# Altium integrated library Analog Devices Data Converters Digital-to-Analog Converters.IntLib: 2231 symbols (part 167 of 181)
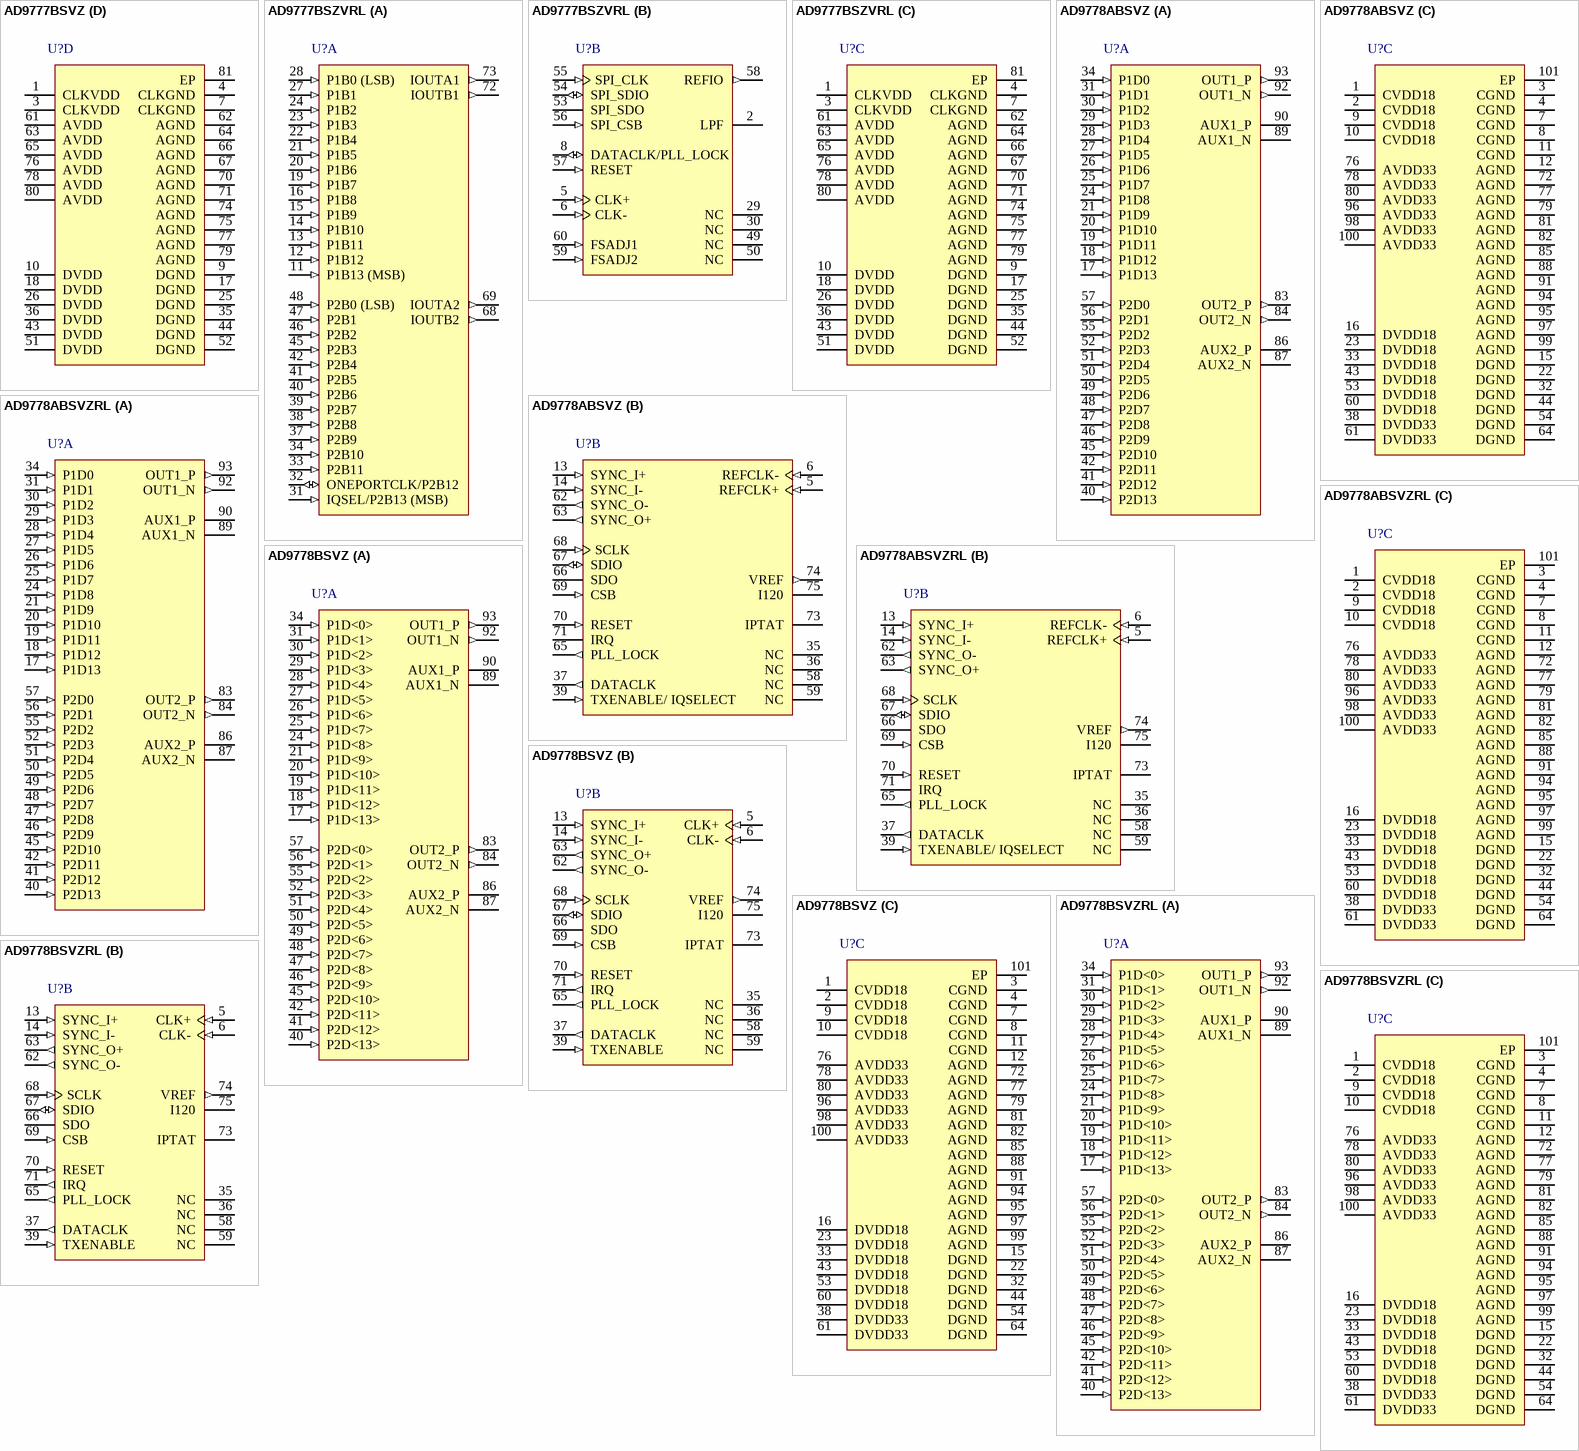
[diagram p280: symbols AD9777BSVZ to AD9778BSVZRL]

## AD9778BSVZ
designator U?
Dual 14-Bit Digital-to-Analog Converter, 1 Gsps, -40 to +85 degC, SV-100-1, Pb-Free, Tray; Generic Part Number: AD9778; Manufacturer: Analog Devices; PartNumber: AD9778BSVZ; # DAC Outputs: 2; Max V+: 3.47V; Op Pwr Diss: 300mW; Resolution (Bits): 14; Single Supply: No; DatasheetVersion: Rev.A; PackageVersion: 040506-A; PackageReference: SV-100-1; PackageDescription: 100-Lead Thin Quad Flat Package, Exposed Pad [TQFP_EP]; Supplier 1: Digi-Key; Supplier Part Number 1: AD9778BSVZ-ND; Supplier 2: Mouser; Supplier Part Number 2: 584-AD9778BSVZ; Packing: Tray; RoHS: Y; Mounting Technology: Surface Mount; Code_JEDEC: MS-026-AED-HD; ComponentLink1Description: Manufacturer URL; ComponentLink1URL: http://www.analog.com/en/index.html; ComponentLink2Description: Datasheet; ComponentLink2URL: http://www.analog.com/static/imported-files/data_sheets/AD9776_9778_9779.pdf; ComponentLink3Description: Package Specification; ComponentLink3URL: http://www.analog.com/static/imported-files/packages/PKG_PDF/TQFP_ED(SV)/SV_100_1.pdf; ComponentLink4Description: Product URL; ComponentLink4URL: http://www.analog.com/en/digital-to-analog-converters/da-converters/ad9778/products/product.html
footprint SV-100-1_N (Thin QFP, 100-Leads, Body 14x14mm, Pitch 0.5mm, Thermal Pad 6.5x6.5mm, IPC Medium Density)
footprint SV-100-1_L (Thin QFP, 100-Leads, Body 14x14mm, Pitch 0.5mm, Thermal Pad 6.5x6.5mm, IPC High Density)
footprint SV-100-1_M (Thin QFP, 100-Leads, Body 14x14mm, Pitch 0.5mm, Thermal Pad 6.5x6.5mm, IPC Low Density)
part A pins: 17 P1D<13> (in) "Port 1, Data Input D13 (MSB).", 18 P1D<12> (in) "Port 1, Data Input D12.", 19 P1D<11> (in) "Port 1, Data Input D11.", 20 P1D<10> (in) "Port 1, Data Input D10.", 21 P1D<9> (in) "Port 1, Data Input D9.", 24 P1D<8> (in) "Port 1, Data Input D8.", 25 P1D<7> (in) "Port 1, Data Input D7.", 26 P1D<6> (in) "Port 1, Data Input D6.", 27 P1D<5> (in) "Port 1, Data Input D5.", 28 P1D<4> (in) "Port 1, Data Input D4.", 29 P1D<3> (in) "Port 1, Data Input D3.", 30 P1D<2> (in) "Port 1, Data Input D2.", 31 P1D<1> (in) "Port 1, Data Input D1.", 34 P1D<0> (in) "Port 1, Data Input D0 (LSB).", 40 P2D<13> (in) "Port 2, Data Input D13 (MSB).", 41 P2D<12> (in) "Port 2, Data Input D12.", 42 P2D<11> (in) "Port 2, Data Input D11.", 45 P2D<10> (in) "Port 2, Data Input D10.", 46 P2D<9> (in) "Port 2, Data Input D9.", 47 P2D<8> (in) "Port 2, Data Input D8.", 48 P2D<7> (in) "Port 2, Data Input D7.", 49 P2D<6> (in) "Port 2, Data Input D6.", 50 P2D<5> (in) "Port 2, Data Input D5.", 51 P2D<4> (in) "Port 2, Data Input D4.", 52 P2D<3> (in) "Port 2, Data Input D3.", 55 P2D<2> (in) "Port 2, Data Input D2.", 56 P2D<1> (in) "Port 2, Data Input D1.", 57 P2D<0> (in) "Port 2, Data Input D0 (LSB).", 83 OUT2_P (out) "Differential DAC Current Output, Channel 2", 84 OUT2_N (out) "Differential DAC Current Output, Channel 2.", 86 AUX2_P (hiz) "Auxiliary DAC Current Output, Channel 2.", 87 AUX2_N (hiz) "Auxiliary DAC Current Output, Channel 2.", 89 AUX1_N (hiz) "Auxiliary DAC Current Output, Channel 1.", 90 AUX1_P (hiz) "Auxiliary DAC Current Output, Channel 1.", 92 OUT1_N (out) "Differential DAC Current Output, Channel 1.", 93 OUT1_P (out) "Differential DAC Current Output, Channel 1."
part B pins: 5 CLK+ (in) "Differential Clock Input.", 6 CLK- (in) "Differential Clock Input.", 13 SYNC_I+ (in) "Differential Synchronization Input.", 14 SYNC_I- (in) "Differential Synchronization Input.", 35 NC "No Connect.", 36 NC "No Connect.", 37 DATACLK (out) "Data Clock Output.", 39 TXENABLE (in) "Transmit Enable.", 58 NC "No Connect.", 59 NC "No Connect.", 62 SYNC_O- (out) "Differential Synchronization Output.", 63 SYNC_O+ (out) "Differential Synchronization Output.", 65 PLL_LOCK (out) "PLL Lock Indicator.", 66 SDO (hiz) "SPI Port Data Output.", 67 SDIO (io) "SPI Port Data Input/Output.", 68 SCLK (in) "SPI Port Clock.", 69 CSB (in) "SPI Port Chip Select Bar.", 70 RESET (in) "Reset, Active High.", 71 IRQ (out) "Interrupt Request.", 73 IPTAT "Factory Test Pin. Output current is proportional to absolute temperature, approximately 10 uA at 25degreesC with approximately 20 nA/degreesC slope. This pin should remain floating.", 74 VREF (out) "Voltage Reference Output.", 75 I120 "120 uA Reference Current."
part C pins: 1 CVDD18 (power) "1.8 V Clock Supply.", 2 CVDD18 (power) "1.8 V Clock Supply.", 3 CGND (power) "Clock Common.", 4 CGND (power) "Clock Common.", 7 CGND (power) "Clock Common.", 8 CGND (power) "Clock Common.", 9 CVDD18 (power) "1.8 V Clock Supply.", 10 CVDD18 (power) "1.8 V Clock Supply.", 11 CGND (power) "Clock Common.", 12 AGND (power) "Analog Common.", 15 DGND (power) "Digital Common.", 16 DVDD18 (power) "1.8 V Digital Supply.", 22 DGND (power) "Digital Common.", 23 DVDD18 (power) "1.8 V Digital Supply.", 32 DGND (power) "Digital Common.", 33 DVDD18 (power) "1.8 V Digital Supply.", 38 DVDD33 (power) "3.3 V Digital Supply.", 43 DVDD18 (power) "1.8 V Digital Supply.", 44 DGND (power) "Digital Common.", 53 DVDD18 (power) "1.8 V Digital Supply.", 54 DGND (power) "Digital Common.", 60 DVDD18 (power) "1.8 V Digital Supply.", 61 DVDD33 (power) "3.3 V Digital Supply.", 64 DGND (power) "Digital Common.", 72 AGND (power) "Analog Common.", 76 AVDD33 (power) "3.3 V Analog Supply.", 77 AGND (power) "Analog Common.", 78 AVDD33 (power) "3.3 V Analog Supply.", 79 AGND (power) "Analog Common.", 80 AVDD33 (power) "3.3 V Analog Supply.", 81 AGND (power) "Analog Common.", 82 AGND (power) "Analog Common.", 85 AGND (power) "Analog Common.", 88 AGND (power) "Analog Common.", 91 AGND (power) "Analog Common.", 94 AGND (power) "Analog Common.", 95 AGND (power) "Analog Common.", 96 AVDD33 (power) "3.3 V Analog Supply.", 97 AGND (power) "Analog Common.", 98 AVDD33 (power) "3.3 V Analog Supply.", 99 AGND (power) "Analog Common.", 100 AVDD33 (power) "3.3 V Analog Supply.", 101 EP (power) "Exposed Pad"

## AD9778BSVZRL
designator U?
Dual 14-Bit Digital-to-Analog Converter, 1 Gsps, -40 to +85 degC, SV-100-1, Pb-Free, Reel; Generic Part Number: AD9778; Manufacturer: Analog Devices; PartNumber: AD9778BSVZRL; # DAC Outputs: 2; Max V+: 3.47V; Op Pwr Diss: 300mW; Resolution (Bits): 14; Single Supply: No; DatasheetVersion: Rev.A; PackageVersion: 040506-A; PackageReference: SV-100-1; PackageDescription: 100-Lead Thin Quad Flat Package, Exposed Pad [TQFP_EP]; Supplier 1: Digi-Key; Supplier Part Number 1: AD9778BSVZRL-ND; Supplier 2: Mouser; Supplier Part Number 2: 584-AD9778BSVZR; Packing: Reel; RoHS: Y; Mounting Technology: Surface Mount; Code_JEDEC: MS-026-AED-HD; ComponentLink1Description: Manufacturer URL; ComponentLink1URL: http://www.analog.com/en/index.html; ComponentLink2Description: Datasheet; ComponentLink2URL: http://www.analog.com/static/imported-files/data_sheets/AD9776_9778_9779.pdf; ComponentLink3Description: Package Specification; ComponentLink3URL: http://www.analog.com/static/imported-files/packages/PKG_PDF/TQFP_ED(SV)/SV_100_1.pdf; ComponentLink4Description: Product URL; ComponentLink4URL: http://www.analog.com/en/digital-to-analog-converters/da-converters/ad9778/products/product.html
footprint SV-100-1_N (Thin QFP, 100-Leads, Body 14x14mm, Pitch 0.5mm, Thermal Pad 6.5x6.5mm, IPC Medium Density)
footprint SV-100-1_L (Thin QFP, 100-Leads, Body 14x14mm, Pitch 0.5mm, Thermal Pad 6.5x6.5mm, IPC High Density)
footprint SV-100-1_M (Thin QFP, 100-Leads, Body 14x14mm, Pitch 0.5mm, Thermal Pad 6.5x6.5mm, IPC Low Density)
part A pins: 17 P1D<13> (in) "Port 1, Data Input D13 (MSB).", 18 P1D<12> (in) "Port 1, Data Input D12.", 19 P1D<11> (in) "Port 1, Data Input D11.", 20 P1D<10> (in) "Port 1, Data Input D10.", 21 P1D<9> (in) "Port 1, Data Input D9.", 24 P1D<8> (in) "Port 1, Data Input D8.", 25 P1D<7> (in) "Port 1, Data Input D7.", 26 P1D<6> (in) "Port 1, Data Input D6.", 27 P1D<5> (in) "Port 1, Data Input D5.", 28 P1D<4> (in) "Port 1, Data Input D4.", 29 P1D<3> (in) "Port 1, Data Input D3.", 30 P1D<2> (in) "Port 1, Data Input D2.", 31 P1D<1> (in) "Port 1, Data Input D1.", 34 P1D<0> (in) "Port 1, Data Input D0 (LSB).", 40 P2D<13> (in) "Port 2, Data Input D13 (MSB).", 41 P2D<12> (in) "Port 2, Data Input D12.", 42 P2D<11> (in) "Port 2, Data Input D11.", 45 P2D<10> (in) "Port 2, Data Input D10.", 46 P2D<9> (in) "Port 2, Data Input D9.", 47 P2D<8> (in) "Port 2, Data Input D8.", 48 P2D<7> (in) "Port 2, Data Input D7.", 49 P2D<6> (in) "Port 2, Data Input D6.", 50 P2D<5> (in) "Port 2, Data Input D5.", 51 P2D<4> (in) "Port 2, Data Input D4.", 52 P2D<3> (in) "Port 2, Data Input D3.", 55 P2D<2> (in) "Port 2, Data Input D2.", 56 P2D<1> (in) "Port 2, Data Input D1.", 57 P2D<0> (in) "Port 2, Data Input D0 (LSB).", 83 OUT2_P (out) "Differential DAC Current Output, Channel 2", 84 OUT2_N (out) "Differential DAC Current Output, Channel 2.", 86 AUX2_P (hiz) "Auxiliary DAC Current Output, Channel 2.", 87 AUX2_N (hiz) "Auxiliary DAC Current Output, Channel 2.", 89 AUX1_N (hiz) "Auxiliary DAC Current Output, Channel 1.", 90 AUX1_P (hiz) "Auxiliary DAC Current Output, Channel 1.", 92 OUT1_N (out) "Differential DAC Current Output, Channel 1.", 93 OUT1_P (out) "Differential DAC Current Output, Channel 1."
part B pins: 5 CLK+ (in) "Differential Clock Input.", 6 CLK- (in) "Differential Clock Input.", 13 SYNC_I+ (in) "Differential Synchronization Input.", 14 SYNC_I- (in) "Differential Synchronization Input.", 35 NC "No Connect.", 36 NC "No Connect.", 37 DATACLK (out) "Data Clock Output.", 39 TXENABLE (in) "Transmit Enable.", 58 NC "No Connect.", 59 NC "No Connect.", 62 SYNC_O- (out) "Differential Synchronization Output.", 63 SYNC_O+ (out) "Differential Synchronization Output.", 65 PLL_LOCK (out) "PLL Lock Indicator.", 66 SDO (hiz) "SPI Port Data Output.", 67 SDIO (io) "SPI Port Data Input/Output.", 68 SCLK (in) "SPI Port Clock.", 69 CSB (in) "SPI Port Chip Select Bar.", 70 RESET (in) "Reset, Active High.", 71 IRQ (out) "Interrupt Request.", 73 IPTAT "Factory Test Pin. Output current is proportional to absolute temperature, approximately 10 uA at 25degreesC with approximately 20 nA/degreesC slope. This pin should remain floating.", 74 VREF (out) "Voltage Reference Output.", 75 I120 "120 uA Reference Current."
part C pins: 1 CVDD18 (power) "1.8 V Clock Supply.", 2 CVDD18 (power) "1.8 V Clock Supply.", 3 CGND (power) "Clock Common.", 4 CGND (power) "Clock Common.", 7 CGND (power) "Clock Common.", 8 CGND (power) "Clock Common.", 9 CVDD18 (power) "1.8 V Clock Supply.", 10 CVDD18 (power) "1.8 V Clock Supply.", 11 CGND (power) "Clock Common.", 12 AGND (power) "Analog Common.", 15 DGND (power) "Digital Common.", 16 DVDD18 (power) "1.8 V Digital Supply.", 22 DGND (power) "Digital Common.", 23 DVDD18 (power) "1.8 V Digital Supply.", 32 DGND (power) "Digital Common.", 33 DVDD18 (power) "1.8 V Digital Supply.", 38 DVDD33 (power) "3.3 V Digital Supply.", 43 DVDD18 (power) "1.8 V Digital Supply.", 44 DGND (power) "Digital Common.", 53 DVDD18 (power) "1.8 V Digital Supply.", 54 DGND (power) "Digital Common.", 60 DVDD18 (power) "1.8 V Digital Supply.", 61 DVDD33 (power) "3.3 V Digital Supply.", 64 DGND (power) "Digital Common.", 72 AGND (power) "Analog Common.", 76 AVDD33 (power) "3.3 V Analog Supply.", 77 AGND (power) "Analog Common.", 78 AVDD33 (power) "3.3 V Analog Supply.", 79 AGND (power) "Analog Common.", 80 AVDD33 (power) "3.3 V Analog Supply.", 81 AGND (power) "Analog Common.", 82 AGND (power) "Analog Common.", 85 AGND (power) "Analog Common.", 88 AGND (power) "Analog Common.", 91 AGND (power) "Analog Common.", 94 AGND (power) "Analog Common.", 95 AGND (power) "Analog Common.", 96 AVDD33 (power) "3.3 V Analog Supply.", 97 AGND (power) "Analog Common.", 98 AVDD33 (power) "3.3 V Analog Supply.", 99 AGND (power) "Analog Common.", 100 AVDD33 (power) "3.3 V Analog Supply.", 101 EP (power) "Exposed Pad"

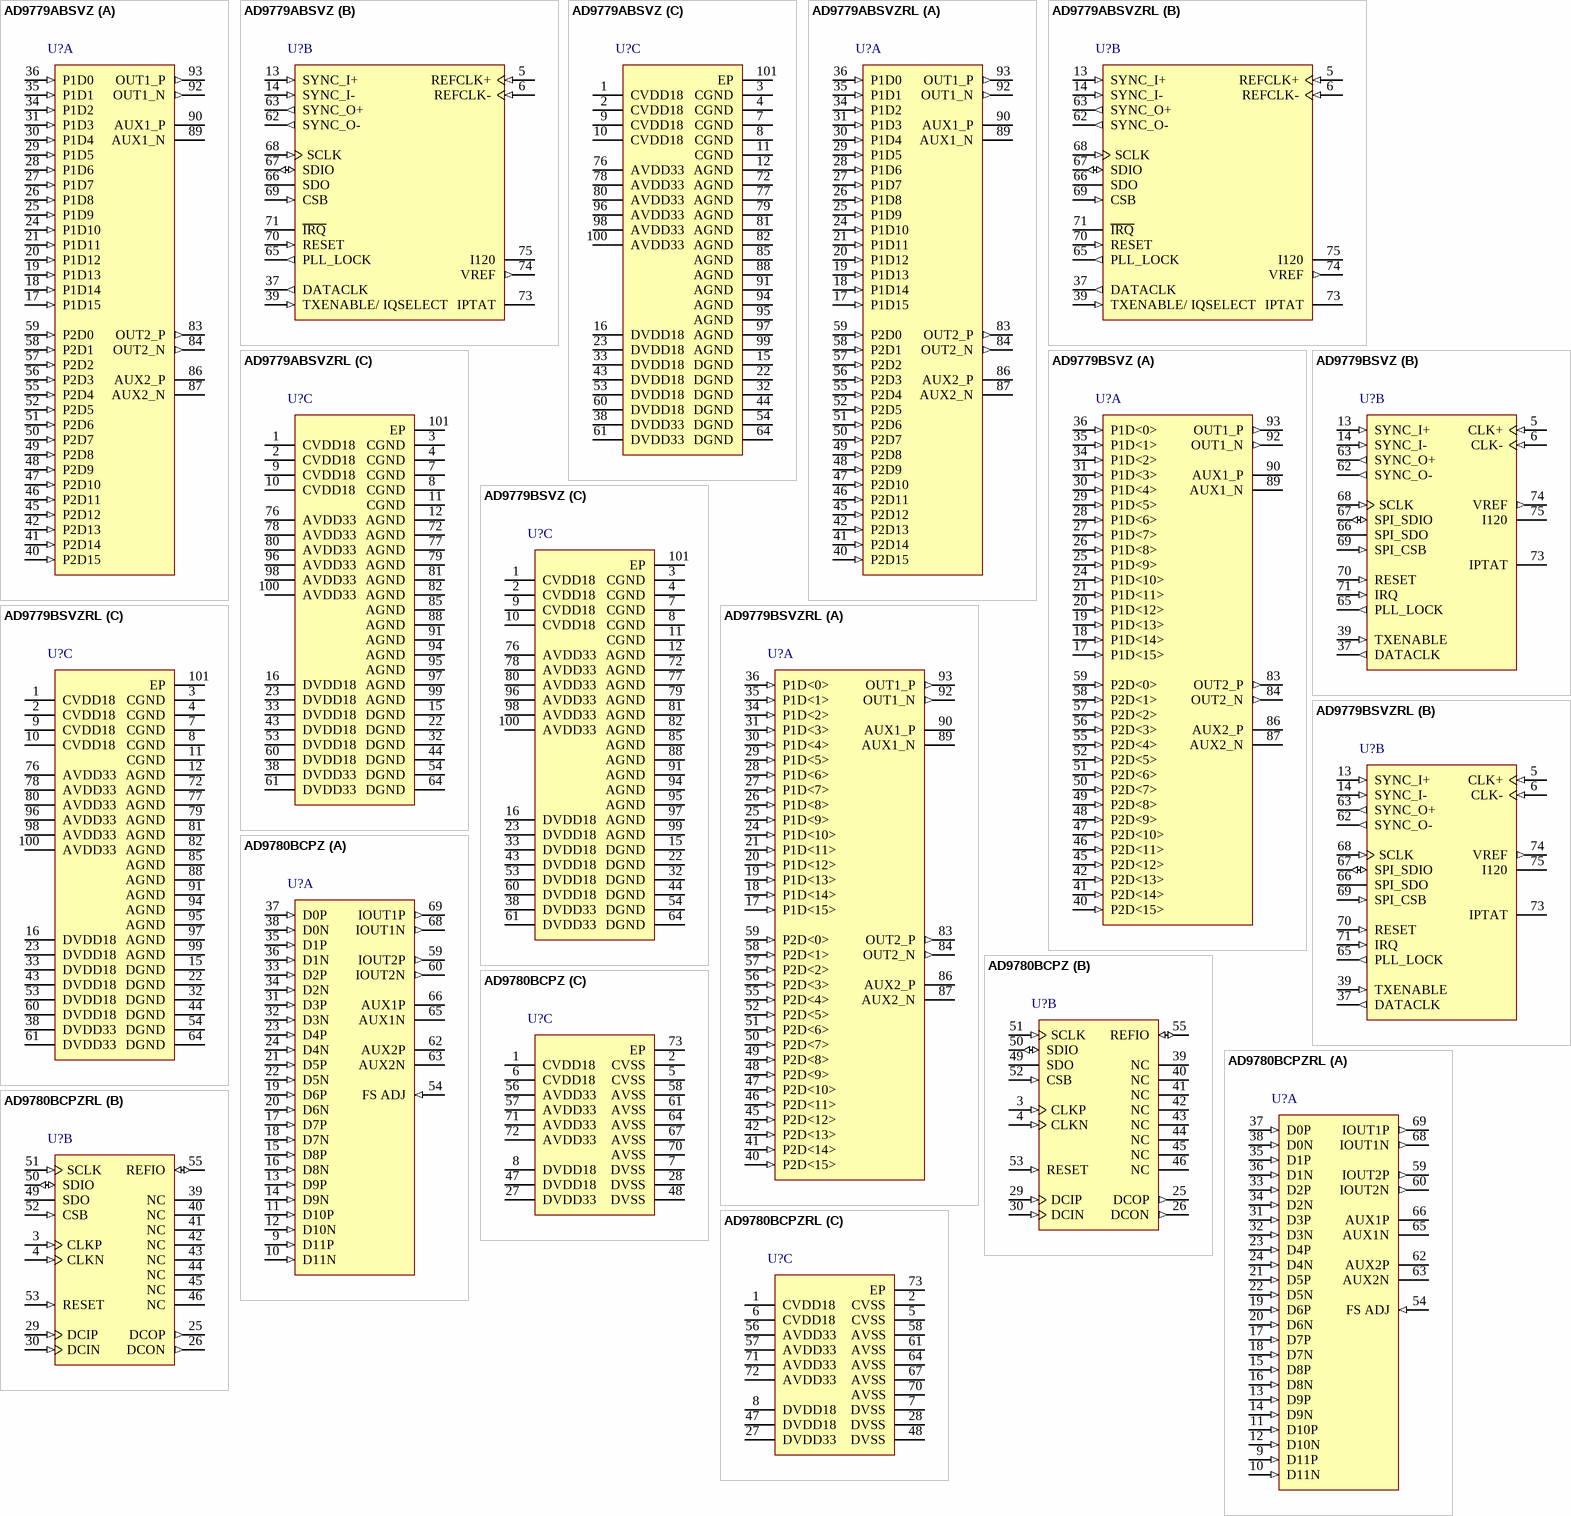
[diagram p103: symbols AD9779ABSVZ to AD9780BCPZRL]

## AD9779ABSVZ
designator U?
Dual 16-Bit Digital-to-Analog Converter, 1 Gsps, -40 to +85 degC, SV-100-1, Pb-Free, Tray; Generic Part Number: AD9779A; Manufacturer: Analog Devices; PartNumber: AD9779ABSVZ; # DAC Outputs: 2; Max V+: 3.47V; Op Pwr Diss: 300mW; Resolution (Bits): 16; Single Supply: No; DatasheetVersion: Rev.B; PackageVersion: 040506-A; PackageReference: SV-100-1; PackageDescription: 100-Lead Thin Quad Flat Package, Exposed Pad [TQFP_EP]; Supplier 1: Digi-Key; Supplier Part Number 1: AD9779ABSVZ-ND; Supplier 2: Farnell; Supplier Part Number 2: 1699577; Supplier 3: Newark; Supplier Part Number 3: 52M3014; Supplier 4: Mouser; Supplier Part Number 4: 584-AD9779ABSVZ; Packing: Tray; RoHS: Y; Mounting Technology: Surface Mount; Code_JEDEC: MS-026-AED-HD; ComponentLink1Description: Manufacturer URL; ComponentLink1URL: http://www.analog.com/en/index.html; ComponentLink2Description: Datasheet; ComponentLink2URL: http://www.analog.com/static/imported-files/data_sheets/AD9776A_AD9778A_AD9779A.pdf; ComponentLink3Description: Package Specification; ComponentLink3URL: http://www.analog.com/static/imported-files/packages/PKG_PDF/TQFP_ED(SV)/SV_100_1.pdf; ComponentLink4Description: Product URL; ComponentLink4URL: http://www.analog.com/en/digital-to-analog-converters/da-converters/ad9779a/products/product.html; ComponentLink5Description: Reference Design URL; ComponentLink5URL: http://www.analog.com/en/digital-to-analog-converters/da-converters/ad9779a/products/product.html#prod_cross_sell
footprint SV-100-1_N (Thin QFP, 100-Leads, Body 14x14mm, Pitch 0.5mm, Thermal Pad 6.5x6.5mm, IPC Medium Density)
footprint SV-100-1_L (Thin QFP, 100-Leads, Body 14x14mm, Pitch 0.5mm, Thermal Pad 6.5x6.5mm, IPC High Density)
footprint SV-100-1_M (Thin QFP, 100-Leads, Body 14x14mm, Pitch 0.5mm, Thermal Pad 6.5x6.5mm, IPC Low Density)
part A pins: 17 P1D15 (in) "Port 1, Data Input D15 (MSB).", 18 P1D14 (in) "Port 1, Data Input D14.", 19 P1D13 (in) "Port 1, Data Input D13.", 20 P1D12 (in) "Port 1, Data Input D12.", 21 P1D11 (in) "Port 1, Data Input D11.", 24 P1D10 (in) "Port 1, Data Input D10.", 25 P1D9 (in) "Port 1, Data Input D9.", 26 P1D8 (in) "Port 1, Data Input D8.", 27 P1D7 (in) "Port 1, Data Input D7.", 28 P1D6 (in) "Port 1, Data Input D6.", 29 P1D5 (in) "Port 1, Data Input D5.", 30 P1D4 (in) "Port 1, Data Input D4.", 31 P1D3 (in) "Port 1, Data Input D3.", 34 P1D2 (in) "Port 1, Data Input D2.", 35 P1D1 (in) "Port 1, Data Input D1.", 36 P1D0 (in) "Port 1, Data Input D0 (LSB).", 40 P2D15 (in) "Port 2, Data Input D15 (MSB).", 41 P2D14 (in) "Port 2, Data Input D14.", 42 P2D13 (in) "Port 2, Data Input D13.", 45 P2D12 (in) "Port 2, Data Input D12.", 46 P2D11 (in) "Port 2, Data Input D11.", 47 P2D10 (in) "Port 2, Data Input D10.", 48 P2D9 (in) "Port 2, Data Input D9.", 49 P2D8 (in) "Port 2, Data Input D8.", 50 P2D7 (in) "Port 2, Data Input D7.", 51 P2D6 (in) "Port 2, Data Input D7.", 52 P2D5 (in) "Port 2, Data Input D5.", 55 P2D4 (in) "Port 2, Data Input D4.", 56 P2D3 (in) "Port 2, Data Input D3.", 57 P2D2 (in) "Port 2, Data Input D2.", 58 P2D1 (in) "Port 2, Data Input D1.", 59 P2D0 (in) "Port 2, Data Input D0 (LSB).", 83 OUT2_P (out) "Differential DAC Current Output, Channel 2.", 84 OUT2_N (out) "Differential DAC Current Output, Channel 2.", 86 AUX2_P (hiz) "Auxiliary DAC Current Output, Channel 2.", 87 AUX2_N (hiz) "Auxiliary DAC Current Output, Channel 2.", 89 AUX1_N (hiz) "Auxiliary DAC Current Output, Channel 1.", 90 AUX1_P (hiz) "Auxiliary DAC Current Output, Channel 1.", 92 OUT1_N (out) "Differential DAC Current Output, Channel 1.", 93 OUT1_P (out) "Differential DAC Current Output, Channel 1."
part B pins: 5 REFCLK+ (in) "Differential Clock Input.", 6 REFCLK- (in) "Differential Clock Input.", 13 SYNC_I+ (in) "Differential Synchronization Input.", 14 SYNC_I- (in) "Differential Synchronization Input.", 37 DATACLK (out) "Data Clock Output.", 39 TXENABLE/ IQSELECT (in) "Transmit Enable. In single port mode, this pin also functions as IQSELECT.", 62 SYNC_O- (out) "Differential Synchronization Output.", 63 SYNC_O+ (out) "Differential Synchronization Output.", 65 PLL_LOCK (out) "PLL Lock Indicator.", 66 SDO (hiz) "3-Wire Interface Port Data Output.", 67 SDIO (io) "3-Wire Interface Port Data Input/Output.", 68 SCLK (in) "3-Wire Interface Port Clock.", 69 CSB (in) "3-Wire Interface Port Chip Select Bar.", 70 RESET (in) "Reset, Active High.", 71 ~{IRQ} (oc) "Interrupt Request.", 73 IPTAT "Factory Test Pin. Output current is proportional to absolute temperature, approximately 14 uA at 25degreesC with approximately 20 nA/degreesC slope. This pin should remain floating.", 74 VREF (out) "Voltage Reference Output.", 75 I120 "120 uA Reference Current."
part C pins: 1 CVDD18 (power) "1.8 V Clock Supply.", 2 CVDD18 (power) "1.8 V Clock Supply.", 3 CGND (power) "Clock Ground.", 4 CGND (power) "Clock Ground.", 7 CGND (power) "Clock Ground.", 8 CGND (power) "Clock Ground.", 9 CVDD18 (power) "1.8 V Clock Supply.", 10 CVDD18 (power) "1.8 V Clock Supply.", 11 CGND (power) "Clock Ground.", 12 AGND (power) "Analog Ground.", 15 DGND (power) "Digital Ground.", 16 DVDD18 (power) "1.8 V Digital Supply.", 22 DGND (power) "Digital Ground.", 23 DVDD18 (power) "1.8 V Digital Supply.", 32 DGND (power) "Digital Ground.", 33 DVDD18 (power) "1.8 V Digital Supply.", 38 DVDD33 (power) "3.3 V Digital Supply.", 43 DVDD18 (power) "1.8 V Digital Supply.", 44 DGND (power) "Digital Ground.", 53 DVDD18 (power) "1.8 V Digital Supply.", 54 DGND (power) "Digital Ground.", 60 DVDD18 (power) "1.8 V Digital Supply.", 61 DVDD33 (power) "3.3 V Digital Supply.", 64 DGND (power) "Digital Ground.", 72 AGND (power) "Analog Ground.", 76 AVDD33 (power) "3.3 V Analog Supply.", 77 AGND (power) "Analog Ground.", 78 AVDD33 (power) "3.3 V Analog Supply.", 79 AGND (power) "Analog Ground.", 80 AVDD33 (power) "3.3 V Analog Supply.", 81 AGND (power) "Analog Ground.", 82 AGND (power) "Analog Ground.", 85 AGND (power) "Analog Ground.", 88 AGND (power) "Analog Ground.", 91 AGND (power) "Analog Ground.", 94 AGND (power) "Analog Ground.", 95 AGND (power) "Analog Ground.", 96 AVDD33 (power) "3.3 V Analog Supply.", 97 AGND (power) "Analog Ground.", 98 AVDD33 (power) "3.3 V Analog Supply.", 99 AGND (power) "Analog Ground.", 100 AVDD33 (power) "3.3 V Analog Supply.", 101 EP (power) "Exposed Pad"

## AD9779ABSVZRL
designator U?
Dual 16-Bit Digital-to-Analog Converter, 1 Gsps, -40 to +85 degC, SV-100-1, Pb-Free, Reel; Generic Part Number: AD9779A; Manufacturer: Analog Devices; PartNumber: AD9779ABSVZRL; # DAC Outputs: 2; Max V+: 3.47V; Op Pwr Diss: 300mW; Resolution (Bits): 16; Single Supply: No; DatasheetVersion: Rev.B; PackageVersion: 040506-A; PackageReference: SV-100-1; PackageDescription: 100-Lead Thin Quad Flat Package, Exposed Pad [TQFP_EP]; Supplier 1: Digi-Key; Supplier Part Number 1: AD9779ABSVZRL-ND; Supplier 2: Newark; Supplier Part Number 2: 52M3015; Supplier 3: Mouser; Supplier Part Number 3: 584-AD9779ABSVZR; Packing: Reel; RoHS: Y; Mounting Technology: Surface Mount; Code_JEDEC: MS-026-AED-HD; ComponentLink1Description: Manufacturer URL; ComponentLink1URL: http://www.analog.com/en/index.html; ComponentLink2Description: Datasheet; ComponentLink2URL: http://www.analog.com/static/imported-files/data_sheets/AD9776A_AD9778A_AD9779A.pdf; ComponentLink3Description: Package Specification; ComponentLink3URL: http://www.analog.com/static/imported-files/packages/PKG_PDF/TQFP_ED(SV)/SV_100_1.pdf; ComponentLink4Description: Product URL; ComponentLink4URL: http://www.analog.com/en/digital-to-analog-converters/da-converters/ad9779a/products/product.html; ComponentLink5Description: Reference Design URL; ComponentLink5URL: http://www.analog.com/en/digital-to-analog-converters/da-converters/ad9779a/products/product.html#prod_cross_sell
footprint SV-100-1_N (Thin QFP, 100-Leads, Body 14x14mm, Pitch 0.5mm, Thermal Pad 6.5x6.5mm, IPC Medium Density)
footprint SV-100-1_L (Thin QFP, 100-Leads, Body 14x14mm, Pitch 0.5mm, Thermal Pad 6.5x6.5mm, IPC High Density)
footprint SV-100-1_M (Thin QFP, 100-Leads, Body 14x14mm, Pitch 0.5mm, Thermal Pad 6.5x6.5mm, IPC Low Density)
part A pins: 17 P1D15 (in) "Port 1, Data Input D15 (MSB).", 18 P1D14 (in) "Port 1, Data Input D14.", 19 P1D13 (in) "Port 1, Data Input D13.", 20 P1D12 (in) "Port 1, Data Input D12.", 21 P1D11 (in) "Port 1, Data Input D11.", 24 P1D10 (in) "Port 1, Data Input D10.", 25 P1D9 (in) "Port 1, Data Input D9.", 26 P1D8 (in) "Port 1, Data Input D8.", 27 P1D7 (in) "Port 1, Data Input D7.", 28 P1D6 (in) "Port 1, Data Input D6.", 29 P1D5 (in) "Port 1, Data Input D5.", 30 P1D4 (in) "Port 1, Data Input D4.", 31 P1D3 (in) "Port 1, Data Input D3.", 34 P1D2 (in) "Port 1, Data Input D2.", 35 P1D1 (in) "Port 1, Data Input D1.", 36 P1D0 (in) "Port 1, Data Input D0 (LSB).", 40 P2D15 (in) "Port 2, Data Input D15 (MSB).", 41 P2D14 (in) "Port 2, Data Input D14.", 42 P2D13 (in) "Port 2, Data Input D13.", 45 P2D12 (in) "Port 2, Data Input D12.", 46 P2D11 (in) "Port 2, Data Input D11.", 47 P2D10 (in) "Port 2, Data Input D10.", 48 P2D9 (in) "Port 2, Data Input D9.", 49 P2D8 (in) "Port 2, Data Input D8.", 50 P2D7 (in) "Port 2, Data Input D7.", 51 P2D6 (in) "Port 2, Data Input D7.", 52 P2D5 (in) "Port 2, Data Input D5.", 55 P2D4 (in) "Port 2, Data Input D4.", 56 P2D3 (in) "Port 2, Data Input D3.", 57 P2D2 (in) "Port 2, Data Input D2.", 58 P2D1 (in) "Port 2, Data Input D1.", 59 P2D0 (in) "Port 2, Data Input D0 (LSB).", 83 OUT2_P (out) "Differential DAC Current Output, Channel 2.", 84 OUT2_N (out) "Differential DAC Current Output, Channel 2.", 86 AUX2_P (hiz) "Auxiliary DAC Current Output, Channel 2.", 87 AUX2_N (hiz) "Auxiliary DAC Current Output, Channel 2.", 89 AUX1_N (hiz) "Auxiliary DAC Current Output, Channel 1.", 90 AUX1_P (hiz) "Auxiliary DAC Current Output, Channel 1.", 92 OUT1_N (out) "Differential DAC Current Output, Channel 1.", 93 OUT1_P (out) "Differential DAC Current Output, Channel 1."
part B pins: 5 REFCLK+ (in) "Differential Clock Input.", 6 REFCLK- (in) "Differential Clock Input.", 13 SYNC_I+ (in) "Differential Synchronization Input.", 14 SYNC_I- (in) "Differential Synchronization Input.", 37 DATACLK (out) "Data Clock Output.", 39 TXENABLE/ IQSELECT (in) "Transmit Enable. In single port mode, this pin also functions as IQSELECT.", 62 SYNC_O- (out) "Differential Synchronization Output.", 63 SYNC_O+ (out) "Differential Synchronization Output.", 65 PLL_LOCK (out) "PLL Lock Indicator.", 66 SDO (hiz) "3-Wire Interface Port Data Output.", 67 SDIO (io) "3-Wire Interface Port Data Input/Output.", 68 SCLK (in) "3-Wire Interface Port Clock.", 69 CSB (in) "3-Wire Interface Port Chip Select Bar.", 70 RESET (in) "Reset, Active High.", 71 ~{IRQ} (oc) "Interrupt Request.", 73 IPTAT "Factory Test Pin. Output current is proportional to absolute temperature, approximately 14 uA at 25degreesC with approximately 20 nA/degreesC slope. This pin should remain floating.", 74 VREF (out) "Voltage Reference Output.", 75 I120 "120 uA Reference Current."
part C pins: 1 CVDD18 (power) "1.8 V Clock Supply.", 2 CVDD18 (power) "1.8 V Clock Supply.", 3 CGND (power) "Clock Ground.", 4 CGND (power) "Clock Ground.", 7 CGND (power) "Clock Ground.", 8 CGND (power) "Clock Ground.", 9 CVDD18 (power) "1.8 V Clock Supply.", 10 CVDD18 (power) "1.8 V Clock Supply.", 11 CGND (power) "Clock Ground.", 12 AGND (power) "Analog Ground.", 15 DGND (power) "Digital Ground.", 16 DVDD18 (power) "1.8 V Digital Supply.", 22 DGND (power) "Digital Ground.", 23 DVDD18 (power) "1.8 V Digital Supply.", 32 DGND (power) "Digital Ground.", 33 DVDD18 (power) "1.8 V Digital Supply.", 38 DVDD33 (power) "3.3 V Digital Supply.", 43 DVDD18 (power) "1.8 V Digital Supply.", 44 DGND (power) "Digital Ground.", 53 DVDD18 (power) "1.8 V Digital Supply.", 54 DGND (power) "Digital Ground.", 60 DVDD18 (power) "1.8 V Digital Supply.", 61 DVDD33 (power) "3.3 V Digital Supply.", 64 DGND (power) "Digital Ground.", 72 AGND (power) "Analog Ground.", 76 AVDD33 (power) "3.3 V Analog Supply.", 77 AGND (power) "Analog Ground.", 78 AVDD33 (power) "3.3 V Analog Supply.", 79 AGND (power) "Analog Ground.", 80 AVDD33 (power) "3.3 V Analog Supply.", 81 AGND (power) "Analog Ground.", 82 AGND (power) "Analog Ground.", 85 AGND (power) "Analog Ground.", 88 AGND (power) "Analog Ground.", 91 AGND (power) "Analog Ground.", 94 AGND (power) "Analog Ground.", 95 AGND (power) "Analog Ground.", 96 AVDD33 (power) "3.3 V Analog Supply.", 97 AGND (power) "Analog Ground.", 98 AVDD33 (power) "3.3 V Analog Supply.", 99 AGND (power) "Analog Ground.", 100 AVDD33 (power) "3.3 V Analog Supply.", 101 EP (power) "Exposed Pad"

## AD9779BSVZ
designator U?
Dual 16-Bit Digital-to-Analog Converter, 1 Gsps, -40 to +85 degC, SV-100-3, Pb-Free, Tray; Generic Part Number: AD9779; Manufacturer: Analog Devices; PartNumber: AD9779BSVZ; # DAC Outputs: 2; Max V+: 3.47V; Op Pwr Diss: 300mW; Resolution (Bits): 16; Single Supply: Yes; DatasheetVersion: Rev.A; PackageVersion: 040506-A; PackageReference: SV-100-3; PackageDescription: 100-Lead Thin Quad Flat Package, Exposed Pad [TQFP_EP]; Supplier 1: Digi-Key; Supplier Part Number 1: AD9779BSVZ-ND; Supplier 2: Farnell; Supplier Part Number 2: 1117879; Supplier 3: Newark; Supplier Part Number 3: 19M8947; Supplier 4: Mouser; Supplier Part Number 4: 584-AD9779BSVZ; Packing: Tray; RoHS: Y; Mounting Technology: Surface Mount; Code_JEDEC: MS-026-AED-HD; ComponentLink1Description: Manufacturer URL; ComponentLink1URL: http://www.analog.com/en/index.html; ComponentLink2Description: Datasheet; ComponentLink2URL: http://www.analog.com/static/imported-files/data_sheets/AD9776_9778_9779.pdf; ComponentLink3Description: Package Specification; ComponentLink3URL: http://www.analog.com/static/imported-files/packages/PKG_PDF/TQFP_ED(SV)/SV_100_3.pdf; ComponentLink4Description: Product URL; ComponentLink4URL: http://www.analog.com/en/digital-to-analog-converters/da-converters/ad9779/products/product.html
footprint SV-100-3_N (QFP, 100-Leads, Body 14x14mm, Pitch 0.5mm, Thermal Pad 9.5x9.5mm, IPC Medium Density)
footprint SV-100-3_L (QFP, 100-Leads, Body 14x14mm, Pitch 0.5mm, Thermal Pad 9.5x9.5mm, IPC High Density)
footprint SV-100-3_M (QFP, 100-Leads, Body 14x14mm, Pitch 0.5mm, Thermal Pad 9.5x9.5mm, IPC Low Density)
part A pins: 17 P1D<15> (in) "Port 1, Data Input D15 (MSB).", 18 P1D<14> (in) "Port 1, Data Input D14.", 19 P1D<13> (in) "Port 1, Data Input D13.", 20 P1D<12> (in) "Port 1, Data Input D12.", 21 P1D<11> (in) "Port 1, Data Input D11.", 24 P1D<10> (in) "Port 1, Data Input D10.", 25 P1D<9> (in) "Port 1, Data Input D9.", 26 P1D<8> (in) "Port 1, Data Input D8.", 27 P1D<7> (in) "Port 1, Data Input D7.", 28 P1D<6> (in) "Port 1, Data Input D6.", 29 P1D<5> (in) "Port 1, Data Input D5.", 30 P1D<4> (in) "Port 1, Data Input D4.", 31 P1D<3> (in) "Port 1, Data Input D3.", 34 P1D<2> (in) "Port 1, Data Input D2.", 35 P1D<1> (in) "Port 1, Data Input D2.", 36 P1D<0> (in) "Port 1, Data Input D0 (LSB).", 40 P2D<15> (in) "Port 2, Data Input D15 (MSB).", 41 P2D<14> (in) "Port 2, Data Input D14.", 42 P2D<13> (in) "Port 2, Data Input D13.", 45 P2D<12> (in) "Port 2, Data Input D12.", 46 P2D<11> (in) "Port 2, Data Input D11.", 47 P2D<10> (in) "Port 2, Data Input D10.", 48 P2D<9> (in) "Port 2, Data Input D9.", 49 P2D<8> (in) "Port 2, Data Input D8.", 50 P2D<7> (in) "Port 2, Data Input D7.", 51 P2D<6> (in) "Port 2, Data Input D6.", 52 P2D<5> (in) "Port 2, Data Input D5.", 55 P2D<4> (in) "Port 2, Data Input D4.", 56 P2D<3> (in) "Port 2, Data Input D3.", 57 P2D<2> (in) "Port 2, Data Input D2.", 58 P2D<1> (in) "Port 2, Data Input D1.", 59 P2D<0> (in) "Port 2, Data Input D0 (LSB).", 83 OUT2_P (out) "Differential DAC Current Output, Channel 2.", 84 OUT2_N (out) "Differential DAC Current Output, Channel 2.", 86 AUX2_P (hiz) "Auxiliary DAC Current Output, Channel 2.", 87 AUX2_N (hiz) "Auxiliary DAC Current Output, Channel 2.", 89 AUX1_N (hiz) "Auxiliary DAC Current Output, Channel 1.", 90 AUX1_P (hiz) "Auxiliary DAC Current Output, Channel 1.", 92 OUT1_N (out) "Differential DAC Current Output, Channel 1.", 93 OUT1_P (out) "Differential DAC Current Output, Channel 1."
part B pins: 5 CLK+ (in) "Differential Clock Input.", 6 CLK- (in) "Differential Clock Input.", 13 SYNC_I+ (in) "Differential Synchronization Input.", 14 SYNC_I- (in) "Differential Synchronization Input.", 37 DATACLK (out) "Data Clock Output.", 39 TXENABLE (in) "Transmit Enable.", 62 SYNC_O- (out) "Differential Synchronization Output.", 63 SYNC_O+ (out) "Differential Synchronization Output.", 65 PLL_LOCK (out) "PLL Lock Indicator.", 66 SPI_SDO (hiz) "SPI Port Data Output.", 67 SPI_SDIO (io) "SPI Port Data Input/Output.", 68 SCLK (in) "SPI Port Clock.", 69 SPI_CSB (in) "SPI Port Chip Select Bar.", 70 RESET (in) "Reset, Active High.", 71 IRQ (in) "Interrupt Request.", 73 IPTAT "Factory Test Pin. Output current is proportional to absolute temperature, approximately 10 µA at 25degreesC with approximately 20 nA/degreesC slope. This pin should remain floating.", 74 VREF (out) "Voltage Reference Output.", 75 I120 "120 uA Reference Current."
part C pins: 1 CVDD18 (power) "1.8 V Clock Supply.", 2 CVDD18 (power) "1.8 V Clock Supply.", 3 CGND (power) "Clock Common.", 4 CGND (power) "Clock Common.", 7 CGND (power) "Clock Common.", 8 CGND (power) "Clock Common.", 9 CVDD18 (power) "1.8 V Clock Supply.", 10 CVDD18 (power) "1.8 V Clock Supply.", 11 CGND (power) "Clock Common.", 12 AGND (power) "Analog Common.", 15 DGND (power) "Digital Common.", 16 DVDD18 (power) "1.8 V Digital Supply.", 22 DGND (power) "Digital Common.", 23 DVDD18 (power) "1.8 V Digital Supply.", 32 DGND (power) "Digital Common.", 33 DVDD18 (power) "1.8 V Digital Supply.", 38 DVDD33 (power) "3.3 V Digital Supply.", 43 DVDD18 (power) "1.8 V Digital Supply.", 44 DGND (power) "Digital Common.", 53 DVDD18 (power) "1.8 V Digital Supply.", 54 DGND (power) "Digital Common.", 60 DVDD18 (power) "1.8 V Digital Supply.", 61 DVDD33 (power) "3.3 V Digital Supply.", 64 DGND (power) "Digital Common.", 72 AGND (power) "Analog Common.", 76 AVDD33 (power), 77 AGND (power) "Analog Common.", 78 AVDD33 (power) "3.3 V Analog Supply.", 79 AGND (power) "Analog Common.", 80 AVDD33 (power) "3.3 V Analog Supply.", 81 AGND (power) "Analog Common.", 82 AGND (power) "Analog Common.", 85 AGND (power) "Analog Common.", 88 AGND (power) "Analog Common.", 91 AGND (power) "Analog Common.", 94 AGND (power) "Analog Common.", 95 AGND (power) "Analog Common.", 96 AVDD33 (power) "3.3 V Analog Supply.", 97 AGND (power) "Analog Common.", 98 AVDD33 (power) "3.3 V Analog Supply.", 99 AGND (power) "Analog Common.", 100 AVDD33 (power) "3.3 V Analog Supply.", 101 EP "Exposed Pad"

## AD9779BSVZRL
designator U?
Dual 16-Bit Digital-to-Analog Converter, 1 Gsps, -40 to +85 degC, SV-100-3, Pb-Free, Reel; Generic Part Number: AD9779; Manufacturer: Analog Devices; PartNumber: AD9779BSVZRL; # DAC Outputs: 2; Max V+: 3.47V; Op Pwr Diss: 300mW; Resolution (Bits): 16; Single Supply: Yes; DatasheetVersion: Rev.A; PackageVersion: 040506-A; PackageReference: SV-100-3; PackageDescription: 100-Lead Thin Quad Flat Package, Exposed Pad [TQFP_EP]; Supplier 1: Digi-Key; Supplier Part Number 1: AD9779BSVZRL-ND; Supplier 2: Newark; Supplier Part Number 2: 59K7443; Supplier 3: Mouser; Supplier Part Number 3: 584-AD9779BSVZR; Packing: Reel; RoHS: Y; Mounting Technology: Surface Mount; Code_JEDEC: MS-026-AED-HD; ComponentLink1Description: Manufacturer URL; ComponentLink1URL: http://www.analog.com/en/index.html; ComponentLink2Description: Datasheet; ComponentLink2URL: http://www.analog.com/static/imported-files/data_sheets/AD9776_9778_9779.pdf; ComponentLink3Description: Package Specification; ComponentLink3URL: http://www.analog.com/static/imported-files/packages/PKG_PDF/TQFP_ED(SV)/SV_100_3.pdf; ComponentLink4Description: Product URL; ComponentLink4URL: http://www.analog.com/en/digital-to-analog-converters/da-converters/ad9779/products/product.html
footprint SV-100-3_N (QFP, 100-Leads, Body 14x14mm, Pitch 0.5mm, Thermal Pad 9.5x9.5mm, IPC Medium Density)
footprint SV-100-3_L (QFP, 100-Leads, Body 14x14mm, Pitch 0.5mm, Thermal Pad 9.5x9.5mm, IPC High Density)
footprint SV-100-3_M (QFP, 100-Leads, Body 14x14mm, Pitch 0.5mm, Thermal Pad 9.5x9.5mm, IPC Low Density)
part A pins: 17 P1D<15> (in) "Port 1, Data Input D15 (MSB).", 18 P1D<14> (in) "Port 1, Data Input D14.", 19 P1D<13> (in) "Port 1, Data Input D13.", 20 P1D<12> (in) "Port 1, Data Input D12.", 21 P1D<11> (in) "Port 1, Data Input D11.", 24 P1D<10> (in) "Port 1, Data Input D10.", 25 P1D<9> (in) "Port 1, Data Input D9.", 26 P1D<8> (in) "Port 1, Data Input D8.", 27 P1D<7> (in) "Port 1, Data Input D7.", 28 P1D<6> (in) "Port 1, Data Input D6.", 29 P1D<5> (in) "Port 1, Data Input D5.", 30 P1D<4> (in) "Port 1, Data Input D4.", 31 P1D<3> (in) "Port 1, Data Input D3.", 34 P1D<2> (in) "Port 1, Data Input D2.", 35 P1D<1> (in) "Port 1, Data Input D2.", 36 P1D<0> (in) "Port 1, Data Input D0 (LSB).", 40 P2D<15> (in) "Port 2, Data Input D15 (MSB).", 41 P2D<14> (in) "Port 2, Data Input D14.", 42 P2D<13> (in) "Port 2, Data Input D13.", 45 P2D<12> (in) "Port 2, Data Input D12.", 46 P2D<11> (in) "Port 2, Data Input D11.", 47 P2D<10> (in) "Port 2, Data Input D10.", 48 P2D<9> (in) "Port 2, Data Input D9.", 49 P2D<8> (in) "Port 2, Data Input D8.", 50 P2D<7> (in) "Port 2, Data Input D7.", 51 P2D<6> (in) "Port 2, Data Input D6.", 52 P2D<5> (in) "Port 2, Data Input D5.", 55 P2D<4> (in) "Port 2, Data Input D4.", 56 P2D<3> (in) "Port 2, Data Input D3.", 57 P2D<2> (in) "Port 2, Data Input D2.", 58 P2D<1> (in) "Port 2, Data Input D1.", 59 P2D<0> (in) "Port 2, Data Input D0 (LSB).", 83 OUT2_P (out) "Differential DAC Current Output, Channel 2.", 84 OUT2_N (out) "Differential DAC Current Output, Channel 2.", 86 AUX2_P (hiz) "Auxiliary DAC Current Output, Channel 2.", 87 AUX2_N (hiz) "Auxiliary DAC Current Output, Channel 2.", 89 AUX1_N (hiz) "Auxiliary DAC Current Output, Channel 1.", 90 AUX1_P (hiz) "Auxiliary DAC Current Output, Channel 1.", 92 OUT1_N (out) "Differential DAC Current Output, Channel 1.", 93 OUT1_P (out) "Differential DAC Current Output, Channel 1."
part B pins: 5 CLK+ (in) "Differential Clock Input.", 6 CLK- (in) "Differential Clock Input.", 13 SYNC_I+ (in) "Differential Synchronization Input.", 14 SYNC_I- (in) "Differential Synchronization Input.", 37 DATACLK (out) "Data Clock Output.", 39 TXENABLE (in) "Transmit Enable.", 62 SYNC_O- (out) "Differential Synchronization Output.", 63 SYNC_O+ (out) "Differential Synchronization Output.", 65 PLL_LOCK (out) "PLL Lock Indicator.", 66 SPI_SDO (hiz) "SPI Port Data Output.", 67 SPI_SDIO (io) "SPI Port Data Input/Output.", 68 SCLK (in) "SPI Port Clock.", 69 SPI_CSB (in) "SPI Port Chip Select Bar.", 70 RESET (in) "Reset, Active High.", 71 IRQ (in) "Interrupt Request.", 73 IPTAT "Factory Test Pin. Output current is proportional to absolute temperature, approximately 10 µA at 25degreesC with approximately 20 nA/degreesC slope. This pin should remain floating.", 74 VREF (out) "Voltage Reference Output.", 75 I120 "120 uA Reference Current."
part C pins: 1 CVDD18 (power) "1.8 V Clock Supply.", 2 CVDD18 (power) "1.8 V Clock Supply.", 3 CGND (power) "Clock Common.", 4 CGND (power) "Clock Common.", 7 CGND (power) "Clock Common.", 8 CGND (power) "Clock Common.", 9 CVDD18 (power) "1.8 V Clock Supply.", 10 CVDD18 (power) "1.8 V Clock Supply.", 11 CGND (power) "Clock Common.", 12 AGND (power) "Analog Common.", 15 DGND (power) "Digital Common.", 16 DVDD18 (power) "1.8 V Digital Supply.", 22 DGND (power) "Digital Common.", 23 DVDD18 (power) "1.8 V Digital Supply.", 32 DGND (power) "Digital Common.", 33 DVDD18 (power) "1.8 V Digital Supply.", 38 DVDD33 (power) "3.3 V Digital Supply.", 43 DVDD18 (power) "1.8 V Digital Supply.", 44 DGND (power) "Digital Common.", 53 DVDD18 (power) "1.8 V Digital Supply.", 54 DGND (power) "Digital Common.", 60 DVDD18 (power) "1.8 V Digital Supply.", 61 DVDD33 (power) "3.3 V Digital Supply.", 64 DGND (power) "Digital Common.", 72 AGND (power) "Analog Common.", 76 AVDD33 (power), 77 AGND (power) "Analog Common.", 78 AVDD33 (power) "3.3 V Analog Supply.", 79 AGND (power) "Analog Common.", 80 AVDD33 (power) "3.3 V Analog Supply.", 81 AGND (power) "Analog Common.", 82 AGND (power) "Analog Common.", 85 AGND (power) "Analog Common.", 88 AGND (power) "Analog Common.", 91 AGND (power) "Analog Common.", 94 AGND (power) "Analog Common.", 95 AGND (power) "Analog Common.", 96 AVDD33 (power) "3.3 V Analog Supply.", 97 AGND (power) "Analog Common.", 98 AVDD33 (power) "3.3 V Analog Supply.", 99 AGND (power) "Analog Common.", 100 AVDD33 (power) "3.3 V Analog Supply.", 101 EP "Exposed Pad"

## AD9780BCPZ
designator U?
12-Bit Digital-to-Analog Converter with LVDS Interface, -40 to +85 degC, CP-72-1, Pb-Free, Tray; Generic Part Number: AD9780; Manufacturer: Analog Devices; PartNumber: AD9780BCPZ; # DAC Outputs: 2; Max V+: 3.47V; Op Pwr Diss: 462.3mW; Resolution (Bits): 12; Single Supply: No; DatasheetVersion: Rev. B; PackageVersion: 06-07-2012-A; PackageReference: CP-72-1; PackageDescription: 72-Lead Lead Frame Chip Scale Package [LFCSP_VQ] 10 x 10 mm Body, Very Thin Quad; Supplier 1: Digi-Key; Supplier Part Number 1: AD9780BCPZ-ND; Supplier 2: Newark; Supplier Part Number 2: 61M4095; Supplier 3: Mouser; Supplier Part Number 3: 584-AD9780BCPZ; Packing: Tray; RoHS: Y; Mounting Technology: Surface Mount; Code_JEDEC: MO-220-VNND-4; ComponentLink1Description: Manufacturer URL; ComponentLink1URL: http://www.analog.com/en/index.html; ComponentLink2Description: Datasheet; ComponentLink2URL: http://www.analog.com/static/imported-files/data_sheets/AD9780_9781_9783.pdf; ComponentLink3Description: Package Specification; ComponentLink3URL: http://www.analog.com/static/imported-files/packages/CP_72_1.pdf; ComponentLink4Description: Product URL; ComponentLink4URL: http://www.analog.com/en/digital-to-analog-converters/da-converters/ad9780/products/product.html
footprint CP-72-1_N (QFN, 72-Leads, Body 10x10mm, Pitch 0.5mm, Thermal Pad 4.7x4.7mm, IPC Medium Density)
footprint CP-72-1_L (QFN, 72-Leads, Body 10x10mm, Pitch 0.5mm, Thermal Pad 4.7x4.7mm, IPC High Density)
footprint CP-72-1_M (QFN, 72-Leads, Body 10x10mm, Pitch 0.5mm, Thermal Pad 4.7x4.7mm, IPC Low Density)
part A pins: 9 D11P (in) "LVDS Data Input.D11 is the MSB.", 10 D11N (in) "LVDS Data Input.D11 is the MSB.", 11 D10P (in) "LVDS Data Input.", 12 D10N (in) "LVDS Data Input.", 13 D9P (in) "LVDS Data Input.", 14 D9N (in) "LVDS Data Input.", 15 D8P (in) "LVDS Data Input.", 16 D8N (in) "LVDS Data Input.", 17 D7P (in) "LVDS Data Input.", 18 D7N (in) "LVDS Data Input.", 19 D6P (in) "LVDS Data Input.", 20 D6N (in) "LVDS Data Input.", 21 D5P (in) "LVDS Data Input.", 22 D5N (in) "LVDS Data Input.", 23 D4P (in) "LVDS Data Input.", 24 D4N (in) "LVDS Data Input.", 31 D3P (in) "LVDS Data Input.", 32 D3N (in) "LVDS Data Input.", 33 D2P (in) "LVDS Data Input.", 34 D2N (in) "LVDS Data Input.", 35 D1P (in) "LVDS Data Input.", 36 D1N (in) "LVDS Data Input.", 37 D0P (in) "LVDS Data Input.D0 is the LSB.", 38 D0N (in) "LVDS Data Input.D0 is the LSB.", 54 FS ADJ (in) "Full-Scale Current Output Adjust.", 59 IOUT2P (out) "DAC Current Output. Full-scale current is sourced when all data bits are 1s.", 60 IOUT2N (out) "Complementary DAC Current Output. Full-scale current is sourced when all data bits are 0s.", 62 AUX2P (hiz) "Differential Auxiliary DAC Current Output (Channel 2).", 63 AUX2N (hiz) "Differential Auxiliary DAC Current Output (Channel 2).", 65 AUX1N (hiz) "Differential Auxiliary DAC Current Output (Channel 1).", 66 AUX1P (hiz) "Differential Auxiliary DAC Current Output (Channel 1).", 68 IOUT1N (out) "Complementary DAC Current Output. Full-scale current is sourced when all data bits are 0s.", 69 IOUT1P (out) "DAC Current Output. Full-scale current is sourced when all data bits are 1s."
part B pins: 3 CLKP (in) "Differential DAC Sampling Clock Input.", 4 CLKN (in) "Differential DAC Sampling Clock Input.", 25 DCOP (out) "Differential Data Clock Output. Clock at the DAC sample rate.", 26 DCON (out) "Differential Data Clock Output. Clock at the DAC sample rate.", 29 DCIP (in) "Differential Data Clock Input Clock aligned with input data.", 30 DCIN (in) "Differential Data Clock Input Clock aligned with input data.", 39 NC "No Connection. Leave these pins floating.", 40 NC "No Connection. Leave these pins floating.", 41 NC "No Connection. Leave these pins floating.", 42 NC "No Connection. Leave these pins floating.", 43 NC "No Connection. Leave these pins floating.", 44 NC "No Connection. Leave these pins floating.", 45 NC "No Connection. Leave these pins floating.", 46 NC "No Connection. Leave these pins floating.", 49 SDO (hiz) "Serial Port Data Output.", 50 SDIO (io) "Serial Port Data Input (4-Wire Mode) or Bidirectional Serial Data Line (3-Wire Mode).", 51 SCLK (in) "Serial Port Clock Input.", 52 CSB (in) "Serial Port Chip Select (Active Low).", 53 RESET (in) "Chip Reset (Active High).", 55 REFIO (io) "Analog Reference Input/Output (1.2 V Nominal)."
part C pins: 1 CVDD18 (power) "Clock Supply Voltage (1.8 V).", 2 CVSS (power) "Clock Supply Return.", 5 CVSS (power) "Clock Supply Return.", 6 CVDD18 (power) "Clock Supply Voltage (1.8 V).", 7 DVSS (power) "Digital Common.", 8 DVDD18 (power) "Digital Supply Voltage (1.8 V).", 27 DVDD33 (power) "Digital Input and Output Pad Ring Supply Voltage (3.3 V).", 28 DVSS (power) "Digital Common.", 47 DVDD18 (power) "Digital Supply Voltage (1.8 V).", 48 DVSS (power) "Digital Common.", 56 AVDD33 (power) "Analog Supply Voltage (3.3 V).", 57 AVDD33 (power) "Analog Supply Voltage (3.3 V).", 58 AVSS (power) "Analog Common.", 61 AVSS (power) "Analog Common.", 64 AVSS (power) "Analog Common.", 67 AVSS (power) "Analog Common.", 70 AVSS (power) "Analog Common.", 71 AVDD33 (power) "Analog Supply Voltage (3.3 V).", 72 AVDD33 (power) "Analog Supply Voltage (3.3 V).", 73 EP (power) "The heat sink pad on the bottom of the package should be soldered to the PCB plane that carries AVSS."

## AD9780BCPZRL
designator U?
12-Bit Digital-to-Analog Converter with LVDS Interface, -40 to +85 degC, CP-72-1, Pb-Free, Reel; Generic Part Number: AD9780; Manufacturer: Analog Devices; PartNumber: AD9780BCPZRL; # DAC Outputs: 2; Max V+: 3.47V; Op Pwr Diss: 462.3mW; Resolution (Bits): 12; Single Supply: No; DatasheetVersion: Rev. B; PackageVersion: 06-07-2012-A; PackageReference: CP-72-1; PackageDescription: 72-Lead Lead Frame Chip Scale Package [LFCSP_VQ] 10 x 10 mm Body, Very Thin Quad; Supplier 1: Digi-Key; Supplier Part Number 1: AD9780BCPZRL-ND; Supplier 2: Newark; Supplier Part Number 2: 61M4096; Supplier 3: Mouser; Supplier Part Number 3: 584-AD9780BCPZR; Packing: Reel; RoHS: Y; Mounting Technology: Surface Mount; Code_JEDEC: MO-220-VNND-4; ComponentLink1Description: Manufacturer URL; ComponentLink1URL: http://www.analog.com/en/index.html; ComponentLink2Description: Datasheet; ComponentLink2URL: http://www.analog.com/static/imported-files/data_sheets/AD9780_9781_9783.pdf; ComponentLink3Description: Package Specification; ComponentLink3URL: http://www.analog.com/static/imported-files/packages/CP_72_1.pdf; ComponentLink4Description: Product URL; ComponentLink4URL: http://www.analog.com/en/digital-to-analog-converters/da-converters/ad9780/products/product.html
footprint CP-72-1_N (QFN, 72-Leads, Body 10x10mm, Pitch 0.5mm, Thermal Pad 4.7x4.7mm, IPC Medium Density)
footprint CP-72-1_L (QFN, 72-Leads, Body 10x10mm, Pitch 0.5mm, Thermal Pad 4.7x4.7mm, IPC High Density)
footprint CP-72-1_M (QFN, 72-Leads, Body 10x10mm, Pitch 0.5mm, Thermal Pad 4.7x4.7mm, IPC Low Density)
part A pins: 9 D11P (in) "LVDS Data Input.D11 is the MSB.", 10 D11N (in) "LVDS Data Input.D11 is the MSB.", 11 D10P (in) "LVDS Data Input.", 12 D10N (in) "LVDS Data Input.", 13 D9P (in) "LVDS Data Input.", 14 D9N (in) "LVDS Data Input.", 15 D8P (in) "LVDS Data Input.", 16 D8N (in) "LVDS Data Input.", 17 D7P (in) "LVDS Data Input.", 18 D7N (in) "LVDS Data Input.", 19 D6P (in) "LVDS Data Input.", 20 D6N (in) "LVDS Data Input.", 21 D5P (in) "LVDS Data Input.", 22 D5N (in) "LVDS Data Input.", 23 D4P (in) "LVDS Data Input.", 24 D4N (in) "LVDS Data Input.", 31 D3P (in) "LVDS Data Input.", 32 D3N (in) "LVDS Data Input.", 33 D2P (in) "LVDS Data Input.", 34 D2N (in) "LVDS Data Input.", 35 D1P (in) "LVDS Data Input.", 36 D1N (in) "LVDS Data Input.", 37 D0P (in) "LVDS Data Input.D0 is the LSB.", 38 D0N (in) "LVDS Data Input.D0 is the LSB.", 54 FS ADJ (in) "Full-Scale Current Output Adjust.", 59 IOUT2P (out) "DAC Current Output. Full-scale current is sourced when all data bits are 1s.", 60 IOUT2N (out) "Complementary DAC Current Output. Full-scale current is sourced when all data bits are 0s.", 62 AUX2P (hiz) "Differential Auxiliary DAC Current Output (Channel 2).", 63 AUX2N (hiz) "Differential Auxiliary DAC Current Output (Channel 2).", 65 AUX1N (hiz) "Differential Auxiliary DAC Current Output (Channel 1).", 66 AUX1P (hiz) "Differential Auxiliary DAC Current Output (Channel 1).", 68 IOUT1N (out) "Complementary DAC Current Output. Full-scale current is sourced when all data bits are 0s.", 69 IOUT1P (out) "DAC Current Output. Full-scale current is sourced when all data bits are 1s."
part B pins: 3 CLKP (in) "Differential DAC Sampling Clock Input.", 4 CLKN (in) "Differential DAC Sampling Clock Input.", 25 DCOP (out) "Differential Data Clock Output. Clock at the DAC sample rate.", 26 DCON (out) "Differential Data Clock Output. Clock at the DAC sample rate.", 29 DCIP (in) "Differential Data Clock Input Clock aligned with input data.", 30 DCIN (in) "Differential Data Clock Input Clock aligned with input data.", 39 NC "No Connection. Leave these pins floating.", 40 NC "No Connection. Leave these pins floating.", 41 NC "No Connection. Leave these pins floating.", 42 NC "No Connection. Leave these pins floating.", 43 NC "No Connection. Leave these pins floating.", 44 NC "No Connection. Leave these pins floating.", 45 NC "No Connection. Leave these pins floating.", 46 NC "No Connection. Leave these pins floating.", 49 SDO (hiz) "Serial Port Data Output.", 50 SDIO (io) "Serial Port Data Input (4-Wire Mode) or Bidirectional Serial Data Line (3-Wire Mode).", 51 SCLK (in) "Serial Port Clock Input.", 52 CSB (in) "Serial Port Chip Select (Active Low).", 53 RESET (in) "Chip Reset (Active High).", 55 REFIO (io) "Analog Reference Input/Output (1.2 V Nominal)."
part C pins: 1 CVDD18 (power) "Clock Supply Voltage (1.8 V).", 2 CVSS (power) "Clock Supply Return.", 5 CVSS (power) "Clock Supply Return.", 6 CVDD18 (power) "Clock Supply Voltage (1.8 V).", 7 DVSS (power) "Digital Common.", 8 DVDD18 (power) "Digital Supply Voltage (1.8 V).", 27 DVDD33 (power) "Digital Input and Output Pad Ring Supply Voltage (3.3 V).", 28 DVSS (power) "Digital Common.", 47 DVDD18 (power) "Digital Supply Voltage (1.8 V).", 48 DVSS (power) "Digital Common.", 56 AVDD33 (power) "Analog Supply Voltage (3.3 V).", 57 AVDD33 (power) "Analog Supply Voltage (3.3 V).", 58 AVSS (power) "Analog Common.", 61 AVSS (power) "Analog Common.", 64 AVSS (power) "Analog Common.", 67 AVSS (power) "Analog Common.", 70 AVSS (power) "Analog Common.", 71 AVDD33 (power) "Analog Supply Voltage (3.3 V).", 72 AVDD33 (power) "Analog Supply Voltage (3.3 V).", 73 EP (power) "The heat sink pad on the bottom of the package should be soldered to the PCB plane that carries AVSS."

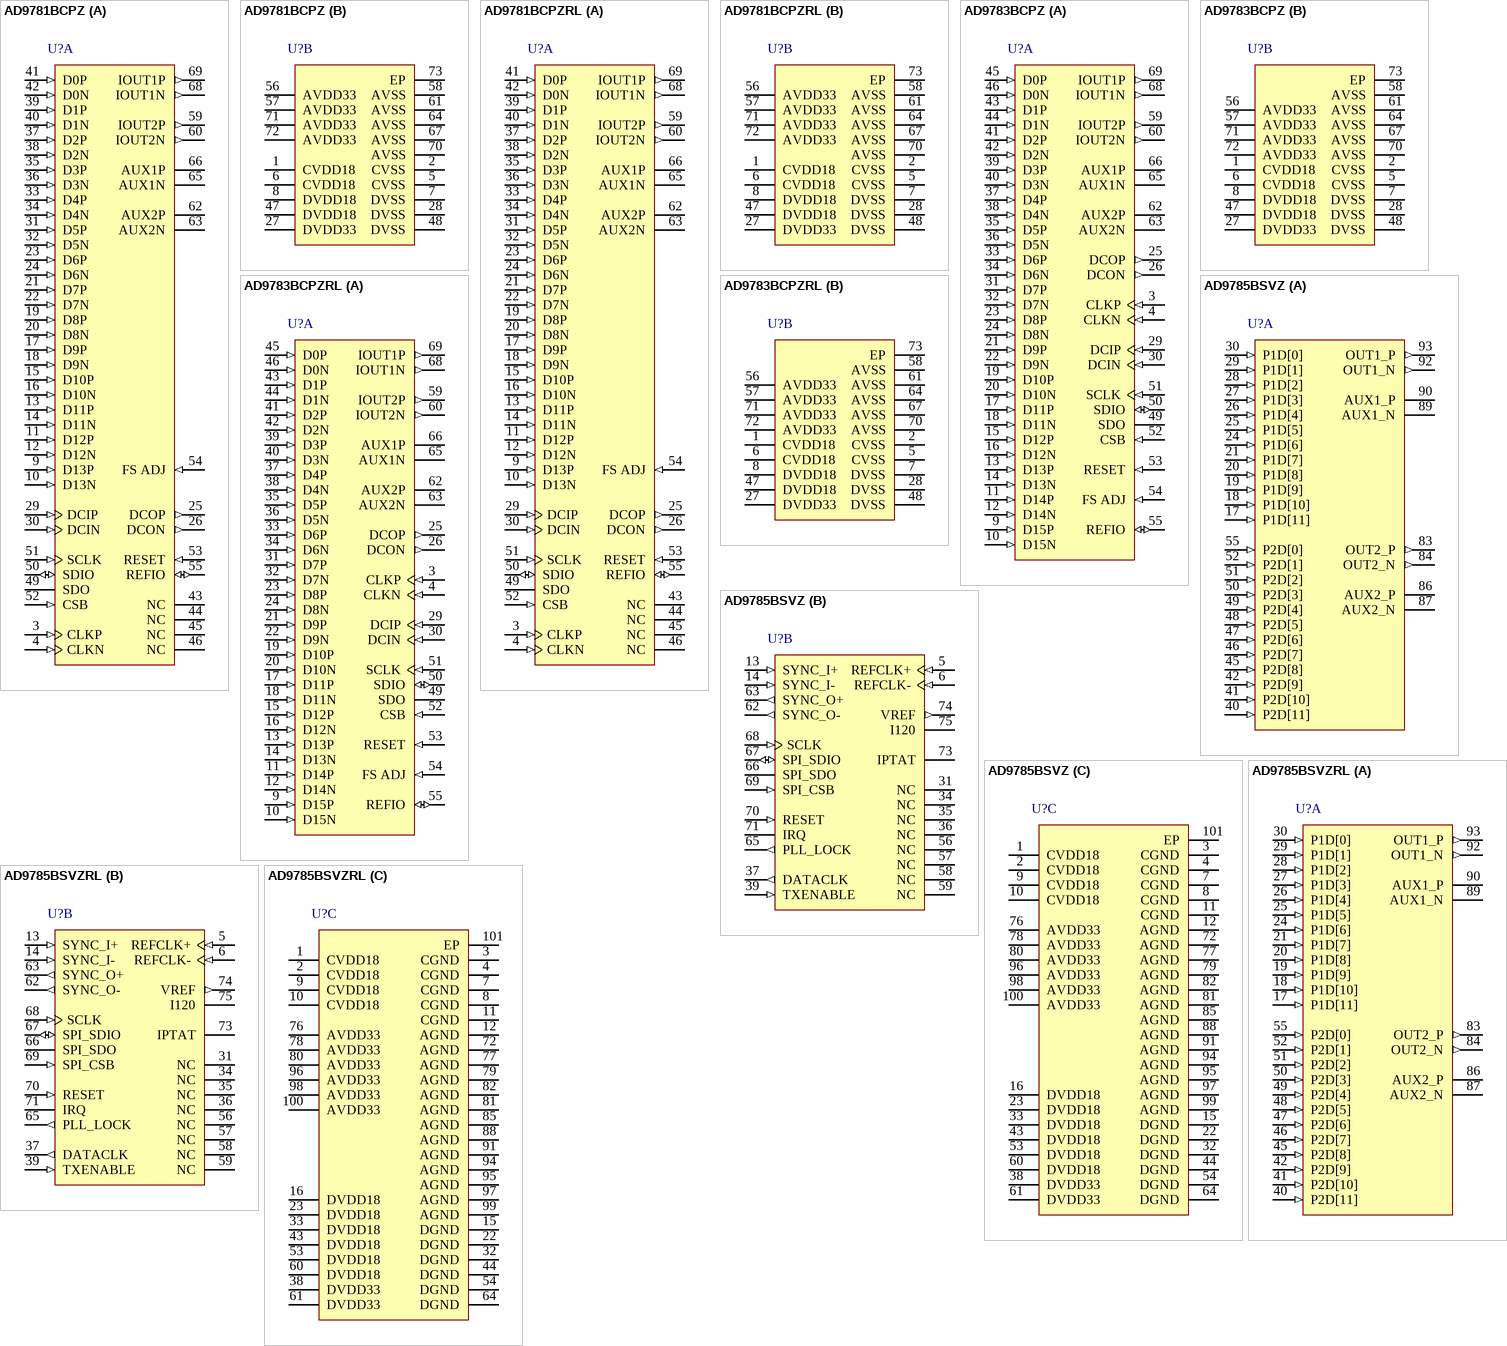
[diagram p104: symbols AD9781BCPZ to AD9785BSVZRL]